# Altium footprint library MDBRE09PE860.PcbLib: 1 footprints
Each footprint in its own frame and in the unit in brackets; x right, y up, seen from the top. Pads: shape width x height; smd on the part's side, far side on the other; paste and mask are expansions set on the pad; w line width, h text height; cw(c..) or ccw(c..) is an arc to the next point about the centre after c.
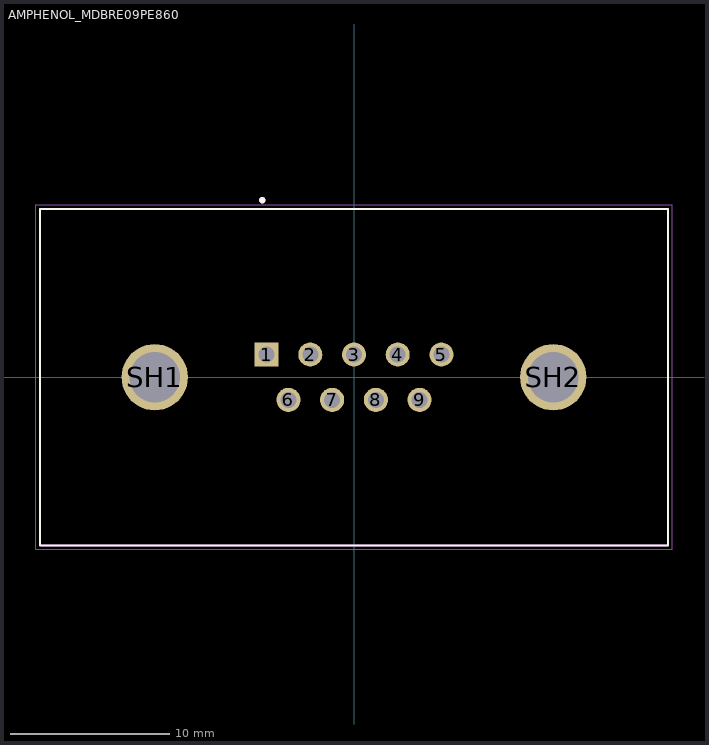
[diagram p0: the footprint, top view; thin cyan lines are the x and y axes]

## AMPHENOL_MDBRE09PE860 [mm]
pads (11):
  rect 1.508x1.508 hole 1: 1(-5.48,1.42)
  round 1.508 hole 1: 2(-2.74,1.42) 3(0,1.42) 4(2.74,1.42) 5(5.48,1.42) 6(-4.11,-1.42) 7(-1.37,-1.42) 8(1.37,-1.42) 9(4.11,-1.42)
  round 4.166 hole 3.15: SH1(-12.495,0) SH2(12.495,0)
Top Overlay:
  circle w0.2: c-5.75,11.1 r0.1
  lines w0.127: -19.7,-10.55 19.7,-10.55 19.7,10.55 -19.7,10.55 -19.7,-10.55
Mechanical 13:
  circle w0.2: c-5.75,11.1 r0.1
  lines w0.127: -19.7,-10.55 19.7,-10.55 19.7,10.55 -19.7,10.55 -19.7,-10.55
Mechanical 15:
  lines w0.05: -19.95,-10.8 19.95,-10.8 19.95,10.8 -19.95,10.8 -19.95,-10.8
3D body "step_temp.STEP": height 14.53, standoff -3.19, extent -19.685,-10.55 19.715,10.55